# Altium schematic symbol library 110990030.SchLib: 1 symbol
Pins are listed as number, name and electrical type; pins without a type are passive.

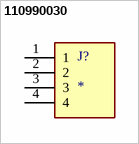
[diagram p0: symbol 110990030]

## 110990030
designator J?
MF: {'manufacturer': u'Seeed Technology'}; MP: 110990030; Package: None; Price: None; Value: *; Availability: Unavailable
footprint SEEED_110990030
pins: 1, 2, 3, 4